# Altium footprint library tht_case.PcbLib: 3 footprints
Each footprint in its own frame and in the unit in brackets; x right, y up, seen from the top. Pads: shape width x height; smd on the part's side, far side on the other; paste and mask are expansions set on the pad; w line width, h text height; cw(c..) or ccw(c..) is an arc to the next point about the centre after c.
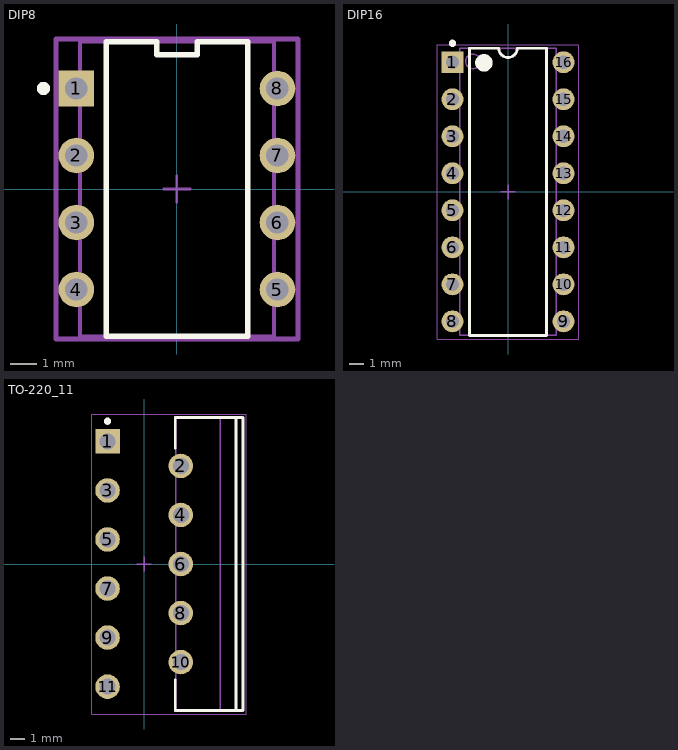
[diagram p0: the footprints below, top view; thin cyan lines are the x and y axes]

## DIP8 [mm]
pads (8):
  rect 1.35x1.35 hole 0.85 paste-1000 mask+0: 1(-3.81,3.81)
  round 1.35 hole 0.85 paste-1000 mask+0: 2(-3.81,1.27) 3(-3.81,-1.27) 4(-3.81,-3.81) 5(3.81,-3.81) 6(3.81,-1.27) 7(3.81,1.27) 8(3.81,3.81)
Top Overlay:
  circle w0.25: c-5.06,3.81 r0.125
  lines w0.2: -2.68,-5.585 2.68,-5.585 2.68,5.585 0.766,5.585 0.766,5.085 -0.766,5.085 -0.766,5.585 -2.68,5.585 -2.68,-5.585
Mechanical 10:
  lines w0.2: -4.585,-5.685 -4.585,5.685 4.585,5.685 4.585,-5.685 -4.585,-5.685
  text ".Designator" at 0,0 h1
Mechanical 12:
  lines w0.15: -3.68,-5.585 -3.68,5.585 3.68,5.585 3.68,-5.585 -3.68,-5.585
Mechanical 15:
  lines w0.1: -0.5,0 0.5,0 ; 0,-0.5 0,0.5
  lines w0.2: -4.585,-5.685 -4.585,5.685 4.585,5.685 4.585,-5.685 -4.585,-5.685
3D body "IC_Infineon_Technologies_AG_IR2101PBF_eec.STEP": height 0.25, standoff 0, extent -4.585,-5.685 4.585,5.685

## DIP16 [mm] "DIP, 16-Leads, Body 19.7x6.6mm, Pitch 2.54mm"
height 5.08
pads (16):
  rect 1.5x1.5 hole 0.9: 1(-3.81,8.89)
  round 1.5 hole 0.9: 2(-3.81,6.35) 3(-3.81,3.81) 4(-3.81,1.27) 5(-3.81,-1.27) 6(-3.81,-3.81) 7(-3.81,-6.35) 8(-3.81,-8.89) 9(3.81,-8.89) 10(3.81,-6.35) 11(3.81,-3.81) 12(3.81,-1.27) 13(3.81,1.27) 14(3.81,3.81) 15(3.81,6.35) 16(3.81,8.89)
Top Overlay:
  circle w0.25: c-3.81,10.19 r0.125
  circle w0.6: c-1.65,8.85 r0.3
  lines w0.2: -2.65,-9.85 -2.65,9.85 -0.635,9.85 ccw(c0,9.85) 0.635,9.85 2.65,9.85 2.65,-9.85 -2.65,-9.85
Mechanical 1:
  text ".Designator" at -2.921,-0.508 h1.2
Mechanical 13:
  circle w0.1: c-2.4,8.95 r0.5
  lines w0.1: -3.3,-9.85 -3.3,9.85 3.3,9.85 3.3,-9.85 -3.3,-9.85
Mechanical 15:
  lines w0.05: -4.85,-10.1 -4.85,10.1 4.85,10.1 4.85,-10.1 -4.85,-10.1
  lines w0.1: -0.5,0 0.5,0 ; 0,-0.5 0,0.5
3D body: height 2.66, standoff 0, extent -3.945,8.39 -3.675,9.39
3D body: height 2.93, standoff 2.66, extent -3.945,8.39 -3.3,9.39
3D body: height 0, standoff -1.6, extent -3.945,8.53 -3.675,9.25
3D body: height 2.66, standoff 0, extent -3.945,5.85 -3.675,6.85
3D body: height 2.93, standoff 2.66, extent -3.945,5.85 -3.3,6.85
3D body: height 0, standoff -1.6, extent -3.945,5.99 -3.675,6.71
3D body: height 2.66, standoff 0, extent -3.945,3.31 -3.675,4.31
3D body: height 2.93, standoff 2.66, extent -3.945,3.31 -3.3,4.31
3D body: height 0, standoff -1.6, extent -3.945,3.45 -3.675,4.17
3D body: height 2.66, standoff 0, extent -3.945,0.77 -3.675,1.77
3D body: height 2.93, standoff 2.66, extent -3.945,0.77 -3.3,1.77
3D body: height 0, standoff -1.6, extent -3.945,0.91 -3.675,1.63
3D body: height 2.66, standoff 0, extent -3.945,-1.77 -3.675,-0.77
3D body: height 2.93, standoff 2.66, extent -3.945,-1.77 -3.3,-0.77
3D body: height 0, standoff -1.6, extent -3.945,-1.63 -3.675,-0.91
3D body: height 2.66, standoff 0, extent -3.945,-4.31 -3.675,-3.31
3D body: height 2.93, standoff 2.66, extent -3.945,-4.31 -3.3,-3.31
3D body: height 0, standoff -1.6, extent -3.945,-4.17 -3.675,-3.45
3D body: height 2.66, standoff 0, extent -3.945,-6.85 -3.675,-5.85
3D body: height 2.93, standoff 2.66, extent -3.945,-6.85 -3.3,-5.85
3D body: height 0, standoff -1.6, extent -3.945,-6.71 -3.675,-5.99
3D body: height 2.66, standoff 0, extent -3.945,-9.39 -3.675,-8.39
3D body: height 2.93, standoff 2.66, extent -3.945,-9.39 -3.3,-8.39
3D body: height 0, standoff -1.6, extent -3.945,-9.25 -3.675,-8.53
3D body: height 2.66, standoff 0, extent 3.675,-9.39 3.945,-8.39
3D body: height 2.93, standoff 2.66, extent 3.3,-9.39 3.945,-8.39
3D body: height 0, standoff -1.6, extent 3.675,-9.25 3.945,-8.53
3D body: height 2.66, standoff 0, extent 3.675,-6.85 3.945,-5.85
3D body: height 2.93, standoff 2.66, extent 3.3,-6.85 3.945,-5.85
3D body: height 0, standoff -1.6, extent 3.675,-6.71 3.945,-5.99
3D body: height 2.66, standoff 0, extent 3.675,-4.31 3.945,-3.31
3D body: height 2.93, standoff 2.66, extent 3.3,-4.31 3.945,-3.31
3D body: height 0, standoff -1.6, extent 3.675,-4.17 3.945,-3.45
3D body: height 2.66, standoff 0, extent 3.675,-1.77 3.945,-0.77
3D body: height 2.93, standoff 2.66, extent 3.3,-1.77 3.945,-0.77
3D body: height 0, standoff -1.6, extent 3.675,-1.63 3.945,-0.91
3D body: height 2.66, standoff 0, extent 3.675,0.77 3.945,1.77
3D body: height 2.93, standoff 2.66, extent 3.3,0.77 3.945,1.77
3D body: height 0, standoff -1.6, extent 3.675,0.91 3.945,1.63
3D body: height 2.66, standoff 0, extent 3.675,3.31 3.945,4.31
3D body: height 2.93, standoff 2.66, extent 3.3,3.31 3.945,4.31
3D body: height 0, standoff -1.6, extent 3.675,3.45 3.945,4.17
3D body: height 2.66, standoff 0, extent 3.675,5.85 3.945,6.85
3D body: height 2.93, standoff 2.66, extent 3.3,5.85 3.945,6.85
3D body: height 0, standoff -1.6, extent 3.675,5.99 3.945,6.71
3D body: height 2.66, standoff 0, extent 3.675,8.39 3.945,9.39
3D body: height 2.93, standoff 2.66, extent 3.3,8.39 3.945,9.39
3D body: height 0, standoff -1.6, extent 3.675,8.53 3.945,9.25
3D body: height 5.08, standoff 0.51, extent -3.3,-9.85 3.3,9.85

## TO-220_11 [mm] "FM, 11-Leads, Body 20.02x4.5mm, Pitch 1.7mm"
height 20.82
pads (11):
  rect 1.7x1.7 hole 1.1: 1(-2.54,8.5)
  round 1.7 hole 1.1: 2(2.54,6.8) 3(-2.54,5.1) 4(2.54,3.4) 5(-2.54,1.7) 6(2.54,0) 7(-2.54,-1.7) 8(2.54,-3.4) 9(-2.54,-5.1) 10(2.54,-6.8) 11(-2.54,-8.5)
Top Overlay:
  circle w0.25: c-2.54,9.9 r0.125
  lines w0.2: 2.155,-8.05 2.155,-10.15 6.855,-10.15 6.855,10.15 2.155,10.15 2.155,8.05 ; 6.355,-10.15 6.355,10.15
Mechanical 13:
  lines w0.1: 5.28,-10.15 5.28,10.15 ; 2.18,-10.15 6.83,-10.15 6.83,10.15 2.18,10.15 2.18,-10.15
Mechanical 15:
  lines w0.05: -3.64,-10.4 7.08,-10.4 7.08,10.4 -3.64,10.4 -3.64,-10.4
  lines w0.1: -0.5,0 0.5,0 ; 0,-0.5 0,0.5
3D body: height 20.82, standoff 19.92, extent 5.28,-10 6.83,10
3D body: height 18.4, standoff 18.02, extent 5.28,-10 6.83,-1.9
3D body: height 18.4, standoff 18.02, extent 5.28,1.9 6.83,10
3D body: height 18.02, standoff 17.65, extent 5.28,-10 6.83,-1.9
3D body: height 18.02, standoff 17.65, extent 5.28,1.9 6.83,10
3D body: height 18.75, standoff 18.39, extent 5.28,-10 6.83,-1.863
3D body: height 18.75, standoff 18.39, extent 5.28,1.863 6.83,10
3D body: height 17.65, standoff 17.29, extent 5.28,-10 6.83,-1.863
3D body: height 17.65, standoff 17.29, extent 5.28,1.863 6.83,10
3D body: height 19.08, standoff 18.75, extent 5.28,-10 6.83,-1.755
3D body: height 19.08, standoff 18.75, extent 5.28,1.755 6.83,10
3D body: height 17.3, standoff 16.96, extent 5.28,-10 6.83,-1.755
3D body: height 17.3, standoff 16.96, extent 5.28,1.755 6.83,10
3D body: height 19.37, standoff 19.08, extent 5.28,-10 6.83,-1.58
3D body: height 19.37, standoff 19.08, extent 5.28,1.58 6.83,10
3D body: height 16.97, standoff 16.68, extent 5.28,-10 6.83,-1.58
3D body: height 16.97, standoff 16.68, extent 5.28,1.58 6.83,10
3D body: height 19.6, standoff 19.36, extent 5.28,-10 6.83,-1.344
3D body: height 19.6, standoff 19.36, extent 5.28,1.344 6.83,10
3D body: height 16.68, standoff 16.44, extent 5.28,-10 6.83,-1.344
3D body: height 16.68, standoff 16.44, extent 5.28,1.344 6.83,10
3D body: height 19.78, standoff 19.6, extent 5.28,-10 6.83,-1.056
3D body: height 19.78, standoff 19.6, extent 5.28,1.056 6.83,10
3D body: height 16.45, standoff 16.26, extent 5.28,-10 6.83,-1.056
3D body: height 16.45, standoff 16.26, extent 5.28,1.056 6.83,10
3D body: height 19.89, standoff 19.78, extent 5.28,-10 6.83,-0.727
3D body: height 19.89, standoff 19.78, extent 5.28,0.727 6.83,10
3D body: height 16.27, standoff 16.16, extent 5.28,-10 6.83,-0.727
3D body: height 16.27, standoff 16.16, extent 5.28,0.727 6.83,10
3D body: height 19.92, standoff 19.88, extent 5.28,-10 6.83,-0.371
3D body: height 19.92, standoff 19.88, extent 5.28,0.371 6.83,10
3D body: height 16.16, standoff 16.12, extent 5.28,-10 6.83,-0.371
3D body: height 16.16, standoff 16.12, extent 5.28,0.371 6.83,10
3D body: height 16.12, standoff 14.02, extent 5.28,-10 6.83,10
3D body: height 14.02, standoff 2.69, extent 2.18,-10.15 6.83,10.15
3D body: height 0, standoff -1.6, extent -2.745,-8.985 -2.335,-8.015
3D body: height 2.69, standoff 1.55, extent 4.3,-9.1 4.71,-7.9
3D body: height 1.55, standoff 1.14, extent -2.745,-9.1 4.71,-7.9
3D body: height 1.14, standoff 0, extent -2.745,-9.1 -2.335,-7.9
3D body: height 0, standoff -1.6, extent 2.335,-7.285 2.745,-6.315
3D body: height 2.69, standoff 1.55, extent 4.3,-7.4 4.71,-6.2
3D body: height 1.55, standoff 1.14, extent 2.335,-7.4 4.71,-6.2
3D body: height 1.14, standoff 0, extent 2.335,-7.4 2.745,-6.2
3D body: height 0, standoff -1.6, extent -2.745,-5.585 -2.335,-4.615
3D body: height 2.69, standoff 1.55, extent 4.3,-5.7 4.71,-4.5
3D body: height 1.55, standoff 1.14, extent -2.745,-5.7 4.71,-4.5
3D body: height 1.14, standoff 0, extent -2.745,-5.7 -2.335,-4.5
3D body: height 0, standoff -1.6, extent 2.335,-3.885 2.745,-2.915
3D body: height 2.69, standoff 1.55, extent 4.3,-4 4.71,-2.8
3D body: height 1.55, standoff 1.14, extent 2.335,-4 4.71,-2.8
3D body: height 1.14, standoff 0, extent 2.335,-4 2.745,-2.8
3D body: height 0, standoff -1.6, extent -2.745,-2.185 -2.335,-1.215
3D body: height 2.69, standoff 1.55, extent 4.3,-2.3 4.71,-1.1
3D body: height 1.55, standoff 1.14, extent -2.745,-2.3 4.71,-1.1
3D body: height 1.14, standoff 0, extent -2.745,-2.3 -2.335,-1.1
3D body: height 0, standoff -1.6, extent 2.335,-0.485 2.745,0.485
3D body: height 2.69, standoff 1.55, extent 4.3,-0.6 4.71,0.6
3D body: height 1.55, standoff 1.14, extent 2.335,-0.6 4.71,0.6
3D body: height 1.14, standoff 0, extent 2.335,-0.6 2.745,0.6
3D body: height 0, standoff -1.6, extent -2.745,1.215 -2.335,2.185
3D body: height 2.69, standoff 1.55, extent 4.3,1.1 4.71,2.3
3D body: height 1.55, standoff 1.14, extent -2.745,1.1 4.71,2.3
3D body: height 1.14, standoff 0, extent -2.745,1.1 -2.335,2.3
3D body: height 0, standoff -1.6, extent 2.335,2.915 2.745,3.885
3D body: height 2.69, standoff 1.55, extent 4.3,2.8 4.71,4
3D body: height 1.55, standoff 1.14, extent 2.335,2.8 4.71,4
3D body: height 1.14, standoff 0, extent 2.335,2.8 2.745,4
3D body: height 0, standoff -1.6, extent -2.745,4.615 -2.335,5.585
3D body: height 2.69, standoff 1.55, extent 4.3,4.5 4.71,5.7
3D body: height 1.55, standoff 1.14, extent -2.745,4.5 4.71,5.7
3D body: height 1.14, standoff 0, extent -2.745,4.5 -2.335,5.7
3D body: height 0, standoff -1.6, extent 2.335,6.315 2.745,7.285
3D body: height 2.69, standoff 1.55, extent 4.3,6.2 4.71,7.4
3D body: height 1.55, standoff 1.14, extent 2.335,6.2 4.71,7.4
3D body: height 1.14, standoff 0, extent 2.335,6.2 2.745,7.4
3D body: height 0, standoff -1.6, extent -2.745,8.015 -2.335,8.985
3D body: height 2.69, standoff 1.55, extent 4.3,7.9 4.71,9.1
3D body: height 1.55, standoff 1.14, extent -2.745,7.9 4.71,9.1
3D body: height 1.14, standoff 0, extent -2.745,7.9 -2.335,9.1